# Altium footprint library Boards.PcbLib: 4 footprints
Each footprint in its own frame and in the unit in brackets; x right, y up, seen from the top. Pads: shape width x height; smd on the part's side, far side on the other; paste and mask are expansions set on the pad; w line width, h text height; cw(c..) or ccw(c..) is an arc to the next point about the centre after c.
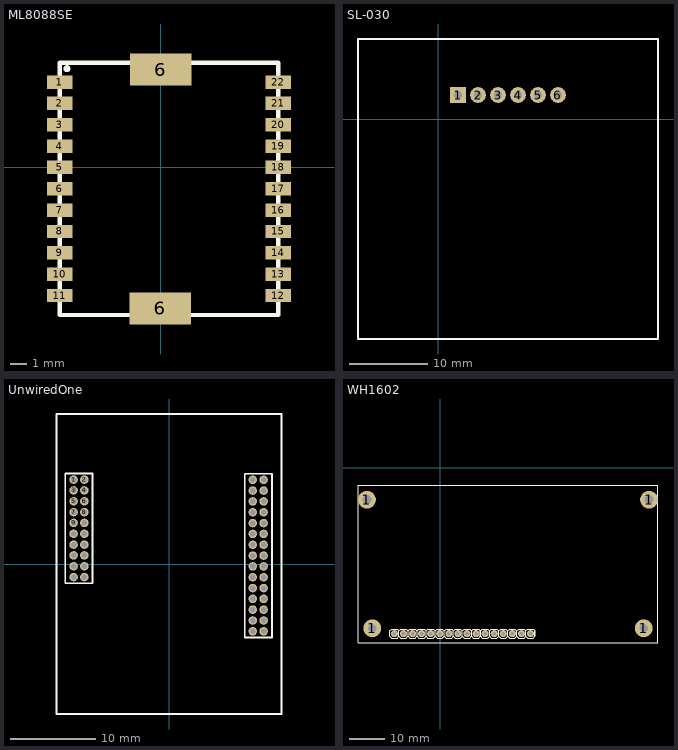
[diagram p0: the footprints below, top view; thin cyan lines are the x and y axes]

## ML8088SE [mm]
pads (24):
  rect 1.5x0.8 smd: 1(-6,5.08) 2(-6,3.81) 3(-6,2.54) 4(-6,1.27) 5(-6,0) 6(-6,-1.27) 7(-6,-2.54) 8(-6,-3.81) 9(-6,-5.08) 10(-6,-6.35) 11(-6,-7.62) 12(7,-7.62) 13(7,-6.35) 14(7,-5.08) 15(7,-3.81) 16(7,-2.54) 17(7,-1.27) 18(7,0) 19(7,1.27) 20(7,2.54) 21(7,3.81) 22(7,5.08)
  rect 3.65x1.9 smd: 6(-0.025,-8.382) 6(0,5.817)
Top Overlay:
  circle w0.254: c-5.575,5.875 r0.079
  lines w0.254: -6,-8.775 7,-8.775 7,6.225 -6,6.225 -6,-8.775

## SL-030 [mm] "RFID reader module"
pads (6):
  rect 2x2 hole 1: 1(2.54,3.048)
  round 2 hole 1: 2(5.08,3.048) 3(7.62,3.048) 4(10.16,3.048) 5(12.7,3.048) 6(15.24,3.048)
Top Overlay:
  lines w0.254: -10.16,-27.94 27.94,-27.94 27.94,10.16 -10.16,10.16 -10.16,-27.94

## UnwiredOne [mm] "UnwiredOne board"
pads (50):
  round 1 hole 0.65: 1(-11.2,9.9) 2(-9.93,9.9) 3(-11.2,8.63) 4(-9.93,8.63) 5(-11.2,7.36) 6(-9.93,7.36) 7(-11.2,6.09) 8(-9.93,6.09) 9(-11.2,4.82) 10(-9.93,4.82) 11(-11.2,3.55) 12(-9.93,3.55) 13(-11.2,2.28) 14(-9.93,2.28) 15(-11.2,1.01) 16(-9.93,1.01) 17(-11.2,-0.26) 18(-9.93,-0.26) 19(-11.2,-1.53) 20(-9.93,-1.53) 21(11.1,-7.9) 22(9.83,-7.9) 23(11.1,-6.63) 24(9.83,-6.63) 25(11.1,-5.36) 26(9.83,-5.36) 27(11.1,-4.09) 28(9.83,-4.09) 29(11.1,-2.82) 30(9.83,-2.82) 31(11.1,-1.55) 32(9.83,-1.55) 33(11.1,-0.28) 34(9.83,-0.28) 35(11.1,0.99) 36(9.83,0.99) 37(11.1,2.26) 38(9.83,2.26) 39(11.1,3.53) 40(9.83,3.53) 41(11.1,4.8) 42(9.83,4.8) 43(11.1,6.07) 44(9.83,6.07) 45(11.1,7.34) 46(9.83,7.34) 47(11.1,8.61) 48(9.83,8.61) 49(11.1,9.88) 50(9.83,9.88)
Top Overlay:
  lines w0.2: -13.2,-17.6 13.2,-17.6 13.2,17.6 -13.2,17.6 -13.2,-17.6 ; -12.175,-2.25 -8.975,-2.25 -8.975,10.625 -12.175,10.625 -12.175,-2.25 ; 8.875,-8.625 12.075,-8.625 12.075,4.25 12.075,10.6 8.875,10.6 8.875,4.25 8.875,-8.625
3D body "User Library-PLLD1_27-xxPLLD1_27-20.STEP": height 4.7, standoff -2.6, extent -12.075,-2.165 -9.075,10.535
3D body "User Library-PLLD1_27-xxPLLD1_27-30.STEP": height 4.7, standoff -2.6, extent 8.975,-8.535 11.975,10.515

## WH1602 [mm]
pads (20):
  round 5 hole 2.5: 1(-20.5,-9) 1(-19,-45) 1(57,-45) 1(58.5,-9)
  round 2 hole 1: 1(-12.8,-46.5) 2(-10.26,-46.5) 3(-7.72,-46.5) 4(-5.18,-46.5) 5(-2.64,-46.5) 6(-0.1,-46.5) 7(2.44,-46.5) 8(4.98,-46.5) 9(7.52,-46.5) 10(10.06,-46.5) 11(12.6,-46.5) 12(15.14,-46.5) 13(17.68,-46.5) 14(20.22,-46.5) 15(22.76,-46.5) 16(25.3,-46.5)
Top Overlay:
  lines w0.2: -9.05,-47.25 -9.55,-47.75 -11.05,-47.75 -11.55,-47.25 ; -9.05,-45.75 -9.55,-45.25 -11.05,-45.25 -11.55,-45.75 ; -6.49,-47.25 -6.99,-47.75 -8.49,-47.75 -8.99,-47.25 -8.99,-45.75 -8.49,-45.25 -6.99,-45.25 -6.49,-45.75 ; 1.13,-47.25 0.63,-47.75 -0.87,-47.75 -1.37,-47.25 -1.37,-45.75 -0.87,-45.25 0.63,-45.25 1.13,-45.75 ; 6.19,-47.25 5.69,-47.75 4.19,-47.75 3.69,-47.25 ; 6.19,-45.75 5.69,-45.25 4.19,-45.25 3.69,-45.75 ; 8.75,-47.25 8.25,-47.75 6.75,-47.75 6.25,-47.25 6.25,-45.75 6.75,-45.25 8.25,-45.25 8.75,-45.75 ; 16.37,-47.25 15.87,-47.75 14.37,-47.75 13.87,-47.25 13.87,-45.75 14.37,-45.25 15.87,-45.25 16.37,-45.75 ; 21.43,-47.25 20.93,-47.75 19.43,-47.75 18.93,-47.25 ; 21.43,-45.75 20.93,-45.25 19.43,-45.25 18.93,-45.75 ; 23.99,-47.25 23.49,-47.75 21.99,-47.75 21.49,-47.25 21.49,-45.75 21.99,-45.25 23.49,-45.25 23.99,-45.75 ; 26.57,-47.25 26.57,-45.75 ; -11.55,-47.25 -12.05,-47.75 -13.55,-47.75 -14.05,-47.25 -14.05,-45.75 -13.55,-45.25 -12.05,-45.25 -11.55,-45.75 ; -11.55,-47.25 -11.55,-45.75 ; 3.69,-47.25 3.69,-45.75 ; 3.69,-47.25 3.19,-47.75 1.69,-47.75 1.19,-47.25 1.19,-45.75 1.69,-45.25 3.19,-45.25 3.69,-45.75 ; 18.93,-47.25 18.93,-45.75 ; 18.93,-47.25 18.43,-47.75 16.93,-47.75 16.43,-47.25 16.43,-45.75 16.93,-45.25 18.43,-45.25 18.93,-45.75 ; -6.45,-47.25 -5.95,-47.75 -4.45,-47.75 -3.95,-47.25 -3.95,-45.75 -4.45,-45.25 -5.95,-45.25 -6.45,-45.75 -6.45,-47.25 ; -3.91,-47.25 -3.41,-47.75 -1.91,-47.75 -1.41,-47.25 -1.41,-45.75 -1.91,-45.25 -3.41,-45.25 -3.91,-45.75 -3.91,-47.25 ; 8.79,-47.25 8.79,-45.75 9.29,-45.25 10.79,-45.25 11.29,-45.75 11.29,-47.25 10.79,-47.75 9.29,-47.75 8.79,-47.25 ; 11.33,-47.25 11.33,-45.75 11.83,-45.25 13.33,-45.25 13.83,-45.75 13.83,-47.25 13.33,-47.75 11.83,-47.75 11.33,-47.25 ; 24.03,-47.25 24.03,-45.75 24.53,-45.25 26.03,-45.25 26.53,-45.75 26.53,-47.25 26.03,-47.75 24.53,-47.75 24.03,-47.25
  lines w0.254: -23,-49 -23,-5 61,-5 61,-49 -23,-49
3D body "User Library-2x16mavilcd.STEP": height 12.1, standoff 2.5, extent -23,-49 61,-5
3D body "User Library-PLS-1.STEP": height 8.44, standoff -3, extent 24.03,-47.77 26.57,-45.23
3D body "User Library-PLS-1.STEP": height 8.44, standoff -3, extent 21.49,-47.77 24.03,-45.23
3D body "User Library-PLS-1.STEP": height 8.44, standoff -3, extent 18.95,-47.77 21.49,-45.23
3D body "User Library-PLS-1.STEP": height 8.44, standoff -3, extent 16.41,-47.77 18.95,-45.23
3D body "User Library-PLS-1.STEP": height 8.44, standoff -3, extent 13.87,-47.77 16.41,-45.23
3D body "User Library-PLS-1.STEP": height 8.44, standoff -3, extent 11.33,-47.77 13.87,-45.23
3D body "User Library-PLS-1.STEP": height 8.44, standoff -3, extent 8.79,-47.77 11.33,-45.23
3D body "User Library-PLS-1.STEP": height 8.44, standoff -3, extent 6.25,-47.77 8.79,-45.23
3D body "User Library-PLS-1.STEP": height 8.44, standoff -3, extent 3.71,-47.77 6.25,-45.23
3D body "User Library-PLS-1.STEP": height 8.44, standoff -3, extent 1.17,-47.77 3.71,-45.23
3D body "User Library-PLS-1.STEP": height 8.44, standoff -3, extent -1.37,-47.77 1.17,-45.23
3D body "User Library-PLS-1.STEP": height 8.44, standoff -3, extent -3.91,-47.77 -1.37,-45.23
3D body "User Library-PLS-1.STEP": height 8.44, standoff -3, extent -6.45,-47.77 -3.91,-45.23
3D body "User Library-PLS-1.STEP": height 8.44, standoff -3, extent -8.99,-47.77 -6.45,-45.23
3D body "User Library-PLS-1.STEP": height 8.44, standoff -3, extent -11.53,-47.77 -8.99,-45.23
3D body "User Library-PLS-1.STEP": height 8.44, standoff -3, extent -14.07,-47.77 -11.53,-45.23